# Altium footprint library PcbLib2.PcbLib: 24 footprints (part 1 of 2)
Each footprint in its own frame and in the unit in brackets; x right, y up, seen from the top. Pads: shape width x height; smd on the part's side, far side on the other; paste and mask are expansions set on the pad; w line width, h text height; cw(c..) or ccw(c..) is an arc to the next point about the centre after c.
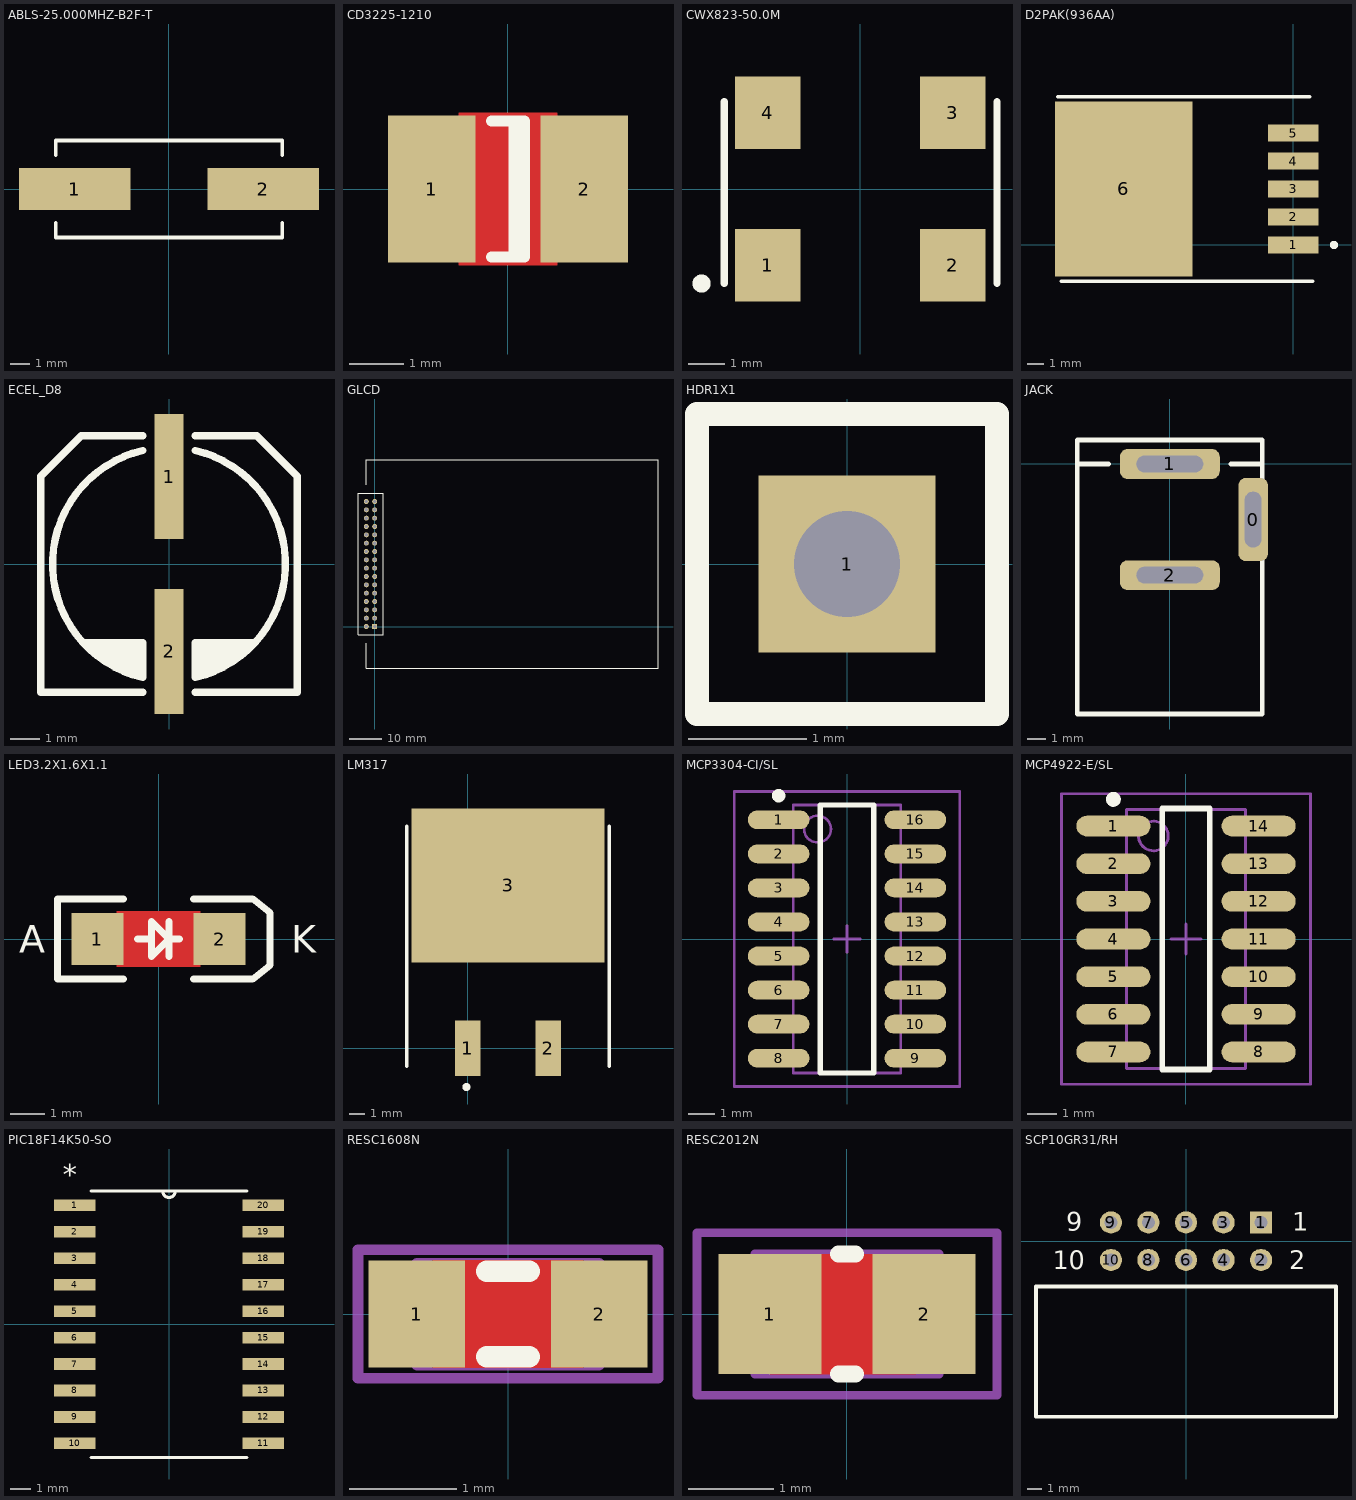
[diagram p0: the footprints below, top view; thin cyan lines are the x and y axes]

## ABLS-25.000MHZ-B2F-T [mm]
pads (2):
  rect 5.6x2.1 smd: 1(-4.75,0) 2(4.75,0)
Top Overlay:
  lines w0.2: -5.7,-1.7 -5.7,-2.45 5.7,-2.45 5.7,-1.7 ; -5.7,1.7 -5.7,2.45 5.7,2.45 5.7,1.7

## CD3225-1210 [mm] "Chip Diode; Body 3.2 x 2.5 mm (LxW typ)"
height 1.35
pads (2):
  rect 1.6x2.7 smd: 1(-1.4,0) 2(1.4,0)
Top Layer:
  pour cut-out: 0.9,1.4 0.9,-1.4 -0.9,-1.4 -0.9,1.4
Top Overlay:
  lines w0.2: -0.3,-1.25 0.3,-1.25 0.3,1.25 -0.3,1.25 ; 0.11,-1.25 0.11,1.25

## CWX823-50.0M [mm]
pads (4):
  rect 1.8x2 smd: 1(-2.54,-2.1) 2(2.54,-2.1) 3(2.54,2.1) 4(-2.54,2.1)
Top Overlay:
  circle w0.25: c-4.365,-2.6 r0.125
  lines w0.2: -3.74,-2.6 -3.74,2.4 ; 3.76,-2.6 3.76,2.4

## D2PAK(936AA) [mm]
pads (6):
  rect 3.05x1.016 smd: 1(0,0) 2(0,1.7) 3(0,3.4) 4(0,5.1) 5(0,6.8)
  rect 8.38x10.66 smd: 6(-10.3,3.4)
Top Overlay:
  circle w0.25: c2.475,0 r0.125
  lines w0.2: -14.3,9 1,9 ; -14.1,-2.2 1.2,-2.2

## ECEL_D8 [mm] "CAP ELECT 8MM DIAMETER"
height 5.5
pads (2):
  rect 1x4.3 smd: 1(0,3) 2(0,-3)
Top Overlay:
  lines w0.254: -3.017,4.4 -0.9,4.4 ; -3.017,4.4 -4.4,3.017 -4.4,-4.4 -0.9,-4.4 ; -2.946,-2.703 -0.906,-2.703 -0.9,-2.709 -0.9,-3.897 cw(c0,0) -0.9,3.897 ; -2.71,-2.931 -0.9,-2.931 ; -2.456,-3.16 -0.9,-3.16 ; -2.1,-3.388 -0.9,-3.388 ; -1.676,-3.617 -0.9,-3.617 ; 0.9,-4.4 4.4,-4.4 4.4,3.017 3.017,4.4 ; 0.9,-3.617 1.676,-3.617 ; 0.9,-3.388 2.1,-3.388 ; 0.9,-3.16 2.456,-3.16 ; 0.9,-2.931 2.71,-2.931 ; 0.9,3.897 cw(c0,0) 0.9,-3.897 0.9,-2.709 0.906,-2.703 2.946,-2.703 ; 0.9,4.4 3.017,4.4

## GLCD [mm]
pads (32):
  rect 1.5x1.5 hole 1: 1(0,0)
  round 1.5 hole 1: 2(-2.54,0) 3(0,2.54) 4(-2.54,2.54) 5(0,5.08) 6(-2.54,5.08) 7(0,7.62) 8(-2.54,7.62) 9(0,10.16) 10(-2.54,10.16) 11(0,12.7) 12(-2.54,12.7) 13(0,15.24) 14(-2.54,15.24) 15(0,17.78) 16(-2.54,17.78) 17(0,20.32) 18(-2.54,20.32) 19(0,22.86) 20(-2.54,22.86) 21(0,25.4) 22(-2.54,25.4) 23(0,27.94) 24(-2.54,27.94) 25(0,30.48) 26(-2.54,30.48) 27(0,33.02) 28(-2.54,33.02) 29(0,35.56) 30(-2.54,35.56) 31(0,38.1) 32(-2.54,38.1)
Top Overlay:
  lines w0.2: -5.08,-2.54 -5.08,40.64 2.54,40.64 2.54,-2.54 -5.08,-2.54
  lines w0.254: -2.54,-5.08 -2.54,-12.7 86.36,-12.7 86.36,50.8 -2.54,50.8 -2.54,43.18

## HDR1X1 [mm]
pads (1):
  rect 1.5x1.5 hole 0.9: 1(0,0)
Top Overlay:
  lines w0.2: -1.27,-1.27 1.27,-1.27 1.27,1.27 -1.27,1.27 -1.27,-1.27

## JACK [mm]
pads (3):
  rrect50% 1.6x4.5 hole 0.9 slot 3 at 90 deg: 0(4.5,-3)
  rrect50% 5.4x1.6 hole 0.9 slot 3.6 at 0 deg: 1(0,0) 2(0,-6)
Top Overlay:
  lines w0.254: -5,0 -3.3,0 ; 3.3,0 5,0 ; -5,-13.5 5,-13.5 5,1.3 -5,1.3 -5,-13.5

## LED3.2X1.6X1.1 [mm] "SMT LED; 2 Flat Leads"
height 1.2
pads (2):
  rect 1.5x1.5 smd: 1(-1.75,0) 2(1.75,0)
Top Layer:
  pour cut-out: -1.2,0.8 -1.2,-0.8 1.2,-0.8 1.2,0.8
Top Overlay:
  lines w0.2: -1,-1.15 -2.9,-1.15 -2.9,1.15 -1,1.15 ; -0.6,0 -0.2,0 ; 0.3,-0.5 0.3,0.5 ; 0.6,0 0.3,0 ; 1,-1.15 2.7,-1.15 3.2,-0.75 3.2,0.75 2.7,1.15 1,1.15 ; 0.3,0 -0.2,-0.5 -0.2,0.5 0.3,0
  text "K" at 3.8,-0.4 h0.8
  text "A" at -4,-0.4 h0.8
Mechanical 1:
  lines w0.1: -0.2,0 0.2,0 ; 0,-0.2 0,0.2

## LM317 [mm] "D2-PAK/TO-263-AB; 3 Leads (1 Cropped); Body 14.7 (inc. leads) x 10.2 mm (LxW max)"
height 4.58
pads (3):
  rect 1.6x3.5 smd: 1(0,0) 2(5.08,0)
  rect 12.2x9.75 smd: 3(2.54,10.3)
Top Overlay:
  circle w0.25: c-0.085,-2.45 r0.125
  lines w0.2: -3.86,-1.15 -3.86,14.05 ; 8.94,-1.15 8.94,14.05

## MCP3304-CI/SL [mm]
pads (16):
  oval 2.3x0.7 smd: 1(-2.55,4.445) 2(-2.55,3.175) 3(-2.55,1.905) 4(-2.55,0.635) 5(-2.55,-0.635) 6(-2.55,-1.905) 7(-2.55,-3.175) 8(-2.55,-4.445) 9(2.55,-4.445) 10(2.55,-3.175) 11(2.55,-1.905) 12(2.55,-0.635) 13(2.55,0.635) 14(2.55,1.905) 15(2.55,3.175) 16(2.55,4.445)
Top Overlay:
  circle w0.25: c-2.55,5.345 r0.125
  lines w0.2: -1,-5 -1,5 1,5 1,-5 -1,-5
Mechanical 13:
  circle w0.1: c-1.1,4.1 r0.5
  lines w0.1: -2,-5 -2,5 2,5 2,-5 -2,-5
Mechanical 15:
  lines w0.1: -0.5,0 0.5,0 ; 0,-0.5 0,0.5 ; -4.2,-5.5 -4.2,5.5 4.2,5.5 4.2,-5.5 -4.2,-5.5
3D body: height 1.73, standoff 0, extent -2,-5 2,5

## MCP4922-E/SL [mm]
pads (14):
  oval 2.5x0.7 smd: 1(-2.45,3.81) 2(-2.45,2.54) 3(-2.45,1.27) 4(-2.45,0) 5(-2.45,-1.27) 6(-2.45,-2.54) 7(-2.45,-3.81) 8(2.45,-3.81) 9(2.45,-2.54) 10(2.45,-1.27) 11(2.45,0) 12(2.45,1.27) 13(2.45,2.54) 14(2.45,3.81)
Top Overlay:
  circle w0.25: c-2.45,4.71 r0.125
  lines w0.2: -0.8,-4.4 -0.8,4.4 0.8,4.4 0.8,-4.4 -0.8,-4.4
Mechanical 13:
  circle w0.1: c-1.1,3.475 r0.5
  lines w0.1: -2,-4.375 -2,4.375 2,4.375 2,-4.375 -2,-4.375
Mechanical 15:
  lines w0.1: -0.5,0 0.5,0 ; 0,-0.5 0,0.5 ; -4.2,-4.9 -4.2,4.9 4.2,4.9 4.2,-4.9 -4.2,-4.9
3D body: height 1.75, standoff 0, extent -2,-4.375 2,4.375

## PIC18F14K50-SO [mil]
pads (20):
  rect 78x22.08 smd: 1(-178,225) 2(-178,175) 3(-178,125) 4(-178,75) 5(-178,25) 6(-178,-25) 7(-178,-75) 8(-178,-125) 9(-178,-175) 10(-178,-225) 11(178,-225) 12(178,-175) 13(178,-125) 14(178,-75) 15(178,-25) 16(178,25) 17(178,75) 18(178,125) 19(178,175) 20(178,225)
Top Overlay:
  lines w6: -147.5,-252 147.5,-252 ; -147.5,252 147.5,252 ; -12,252 ccw(c0,252) 12,252
  text "*" at -200.52,263.23 h40

## RESC1608N [mm] "Chip Resistor, Body 1.6x0.8mm, IPC Medium Density"
height 0.6
pads (2):
  rect 0.9x1 smd: 1(-0.85,0) 2(0.85,0)
Top Layer:
  pour cut-out: 0.7,0.5 0.7,-0.5 -0.7,-0.5 -0.7,0.5
Top Overlay:
  lines w0.2: -0.2,-0.4 0.2,-0.4 ; -0.2,0.4 0.2,0.4
Mechanical 13:
  lines w0.1: -0.85,-0.475 -0.85,0.475 0.85,0.475 0.85,-0.475 -0.85,-0.475
Mechanical 15:
  lines w0.1: -0.475,0 0.475,0 ; 0,-0.475 0,0.475 ; -1.4,-0.6 -1.4,0.6 1.4,0.6 1.4,-0.6 -1.4,-0.6
3D body: height 0.6, standoff 0, extent -0.85,-0.475 0.85,0.475

## RESC2012N [mm] "Chip Resistor, Body 2.0x1.3mm, IPC Medium Density"
height 0.65
pads (2):
  rect 1.2x1.4 smd: 1(-0.9,0) 2(0.9,0)
Top Layer:
  pour cut-out: 0.8,0.7 0.8,-0.7 -0.9,-0.7 -0.9,0.7
Top Overlay:
  lines w0.2: -0.1,-0.7 0.1,-0.7 ; -0.1,0.7 0.1,0.7
Mechanical 13:
  lines w0.1: -1.075,-0.7 -1.075,0.7 1.075,0.7 1.075,-0.7 -1.075,-0.7
Mechanical 15:
  lines w0.1: -0.5,0 0.5,0 ; 0,-0.5 0,0.5 ; -1.75,-0.95 -1.75,0.95 1.75,0.95 1.75,-0.95 -1.75,-0.95
3D body: height 0.65, standoff 0, extent -1.075,-0.7 1.075,0.7

## SCP10GR31/RH [mm]
pads (10):
  rect 1.5x1.5 hole 0.9: 1(5.08,1.27)
  round 1.5 hole 0.9: 2(5.08,-1.27) 3(2.54,1.27) 4(2.54,-1.27) 5(0,1.27) 6(0,-1.27) 7(-2.54,1.27) 8(-2.54,-1.27) 9(-5.08,1.27) 10(-5.08,-1.27)
Top Overlay:
  lines w0.254: -10.15,-11.87 -10.15,-3.07 10.15,-3.07 10.15,-11.87 -10.15,-11.87
  text "10" at -9,-1.9 h1.27
  text "9" at -8.1,0.7 h1.27
  text "2" at 7,-1.9 h1.27
  text "1" at 7.2,0.7 h1.27